# EAGLE library part ISP (library pogo-isp)
ISP connector pads for Pogo ISP There are variants for mixed pads/vias, pads only and vias.
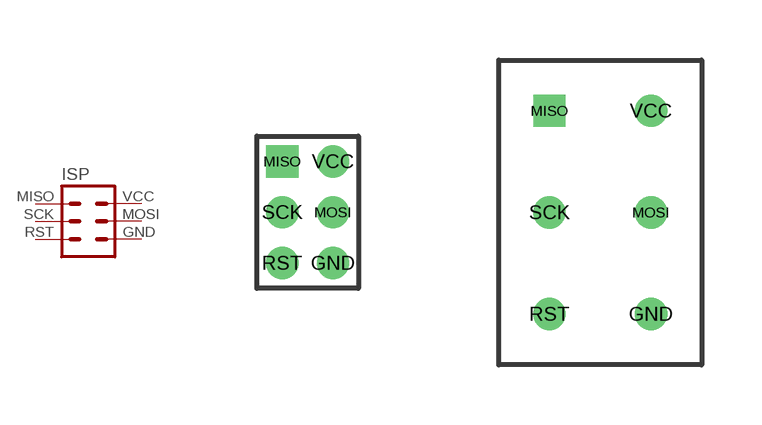
[diagram p0: symbol with the pads of ISP-VIAS-ONLY-1.27MM; footprints ISP-VIAS-ONLY-1.27MM, ISP-VIAS-ONLY-2.54MM]

Designator prefix ISP

## ISPVIAS-ONLY-1.27MM  [ISP-VIAS-ONLY-1.27MM]
GND  GND  pas
MISO  MISO  pas
MOSI  MOSI  pas
RST  RST  pas
SCK  SCK  pas
VCC  VCC  pas

## ISPVIAS-ONLY-2.54MM  [ISP-VIAS-ONLY-2.54MM]
Pads as for ISP-VIAS-ONLY-1.27MM

## ISP1.27MM  [ISP-1.27MM]
Pads as for ISP-VIAS-ONLY-1.27MM

## ISP2.54MM  [ISP-2.54MM]
Pads as for ISP-VIAS-ONLY-1.27MM

## ISPPADS-ONLY-1.27MM  [ISP-PADS-ONLY-1.27MM]
Pads as for ISP-VIAS-ONLY-1.27MM

## ISPPADS-ONLY-2.54MM  [ISP-PADS-ONLY-2.54MM]
Pads as for ISP-VIAS-ONLY-1.27MM

## Footprint ISP-VIAS-ONLY-1.27MM (pad centres in mm)
drill 0.3 pad 0.762: GND 0.635,-1.27; MOSI 0.635,0; RST -0.635,-1.27; SCK -0.635,0; VCC 0.635,1.27
drill 0.3 pad 0.762 square: MISO -0.635,1.27

## Footprint ISP-VIAS-ONLY-2.54MM (pad centres in mm)
drill 0.3 pad 0.762: GND 1.27,-2.54; MOSI 1.27,0; RST -1.27,-2.54; SCK -1.27,0; VCC 1.27,2.54
drill 0.3 pad 0.762 square: MISO -1.27,2.54

## Footprint ISP-1.27MM (pad centres in mm)
drill 0.3 pad 0.762: GND 0.635,-1.27; VCC 0.635,1.27
smd 0.762 x 0.762: MISO -0.635,1.27; MOSI 0.635,0; RST -0.635,-1.27; SCK -0.635,0

## Footprint ISP-2.54MM (pad centres in mm)
drill 0.3 pad 0.762: GND 1.27,-2.54; VCC 1.27,2.54
smd 0.762 x 0.762: MISO -1.27,2.54; MOSI 1.27,0; RST -1.27,-2.54; SCK -1.27,0

## Footprint ISP-PADS-ONLY-1.27MM (pad centres in mm)
smd 0.762 x 0.762: GND 0.635,-1.27; MISO -0.635,1.27; MOSI 0.635,0; RST -0.635,-1.27; SCK -0.635,0; VCC 0.635,1.27

## Footprint ISP-PADS-ONLY-2.54MM (pad centres in mm)
smd 0.762 x 0.762: GND 1.27,-2.54; MISO -1.27,2.54; MOSI 1.27,0; RST -1.27,-2.54; SCK -1.27,0; VCC 1.27,2.54